# EAGLE library part CD4051BM (library halcyonmod_AnalogIC)
CMOS Analog Multiplexers/Demultiplexers with Logic Level Conversion
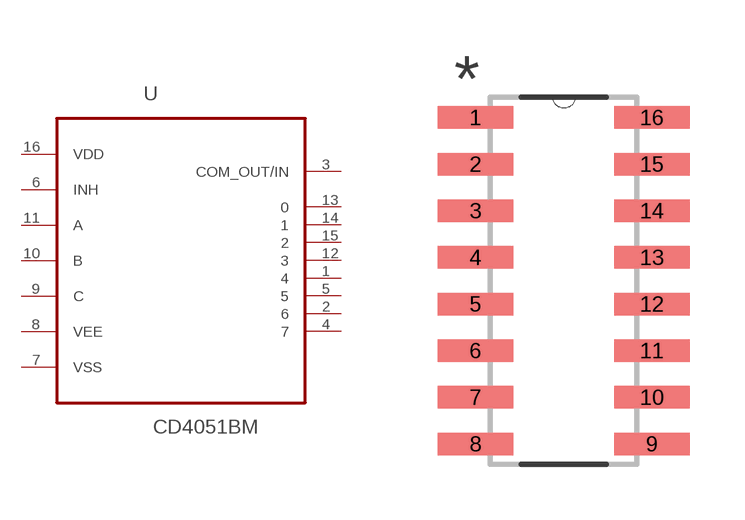
[diagram p24: symbol with the pads of SOIC127P600X175-16N; footprint SOIC127P600X175-16N]

Designator prefix U

## CD4051BM (MPN: CD4051BM; OC_FARNELL: 8388970; OC_NEWARK: 05B5595; PACKAGE: SOIC-16; SUPPLIER: Texas Instruments)  [SOIC127P600X175-16N]
1  4
2  6
3  COM_OUT/IN
4  7
5  5
6  INH  in
7  VSS  pwr
8  VEE  pwr
9  C
10  B  in
11  A  in
12  3
13  0
14  1
15  2
16  VDD  in

## Footprint SOIC127P600X175-16N (pad centres in mm)
smd 2.057 x 0.61: 1 -4.801,8.89; 2 -4.801,7.62; 3 -4.801,6.35; 4 -4.801,5.08; 5 -4.801,3.81; 6 -4.801,2.54; 7 -4.801,1.27; 8 -4.801,0; 9 0,0; 10 0,1.27; 11 0,2.54; 12 0,3.81; 13 0,5.08; 14 0,6.35; 15 0,7.62; 16 0,8.89